# Altium footprint library HEATSINK.PcbLib: 3 footprints
Each footprint in its own frame and in the unit in brackets; x right, y up, seen from the top. Pads: shape width x height; smd on the part's side, far side on the other; paste and mask are expansions set on the pad; w line width, h text height; cw(c..) or ccw(c..) is an arc to the next point about the centre after c.
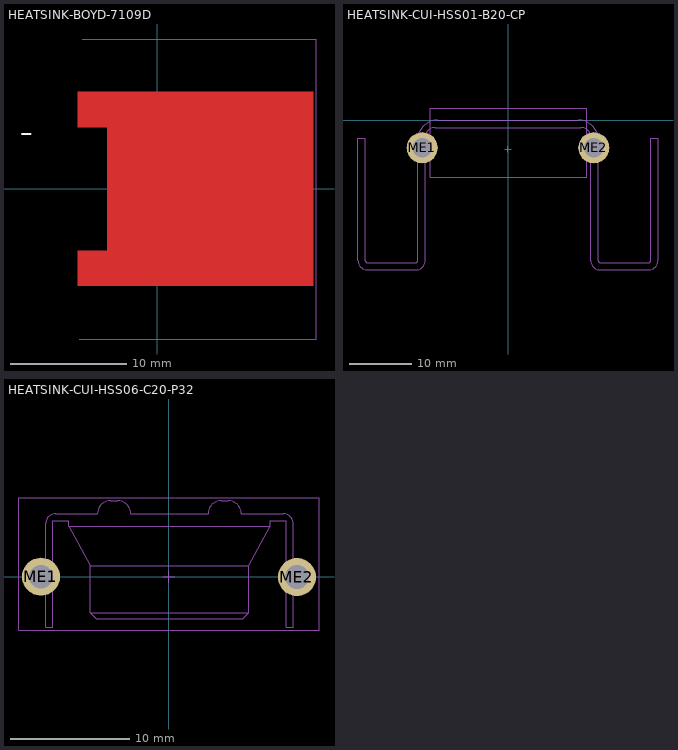
[diagram p0: the footprints below, top view; thin cyan lines are the x and y axes]

## HEATSINK-BOYD-7109D [mm] "BOYD 7109 / ASSMAN V1102"
Top Layer:
  region: -6.858,-8.388 -6.858,-5.34 -4.318,-5.34 -4.318,5.328 -6.858,5.328 -6.858,8.388 13.462,8.388 13.462,-8.388
Top Overlay:
  lines w0.152: -11.7,4.734 -10.95,4.734
Top Paste:
  region: -0.1,-3.991 -0.9,-3.991 -0.9,-4.791 -0.1,-4.791
  region: 1,-3.991 0.2,-3.991 0.2,-4.791 1,-4.791
  region: 2.1,-3.991 1.3,-3.991 1.3,-4.791 2.1,-4.791
  region: 3.2,-3.991 2.4,-3.991 2.4,-4.791 3.2,-4.791
  rectangle: -2,-4.791 -1.2,-3.991
  rectangle: -3.1,-4.791 -2.3,-3.991
  rectangle: -4.2,-4.791 -3.4,-3.991
  region: 4.2,-3.991 3.5,-3.991 3.5,-4.791 4.2,-4.791
  rectangle: -5.2,-4.791 -4.5,-3.991
  region: -0.1,-2.891 -0.9,-2.891 -0.9,-3.691 -0.1,-3.691
  region: 1,-2.891 0.2,-2.891 0.2,-3.691 1,-3.691
  region: 2.1,-2.891 1.3,-2.891 1.3,-3.691 2.1,-3.691
  region: 3.2,-2.891 2.4,-2.891 2.4,-3.691 3.2,-3.691
  rectangle: -2,-3.691 -1.2,-2.891
  rectangle: -3.1,-3.691 -2.3,-2.891
  rectangle: -4.2,-3.691 -3.4,-2.891
  region: 4.2,-2.891 3.5,-2.891 3.5,-3.691 4.2,-3.691
  rectangle: -5.2,-3.691 -4.5,-2.891
  region: -0.1,-1.791 -0.9,-1.791 -0.9,-2.591 -0.1,-2.591
  region: 1,-1.791 0.2,-1.791 0.2,-2.591 1,-2.591
  region: 2.1,-1.791 1.3,-1.791 1.3,-2.591 2.1,-2.591
  region: 3.2,-1.791 2.4,-1.791 2.4,-2.591 3.2,-2.591
  rectangle: -2,-2.591 -1.2,-1.791
  rectangle: -3.1,-2.591 -2.3,-1.791
  rectangle: -4.2,-2.591 -3.4,-1.791
  region: 4.2,-1.791 3.5,-1.791 3.5,-2.591 4.2,-2.591
  rectangle: -5.2,-2.591 -4.5,-1.791
  region: -0.1,-0.691 -0.9,-0.691 -0.9,-1.491 -0.1,-1.491
  region: 1,-0.691 0.2,-0.691 0.2,-1.491 1,-1.491
  region: 2.1,-0.691 1.3,-0.691 1.3,-1.491 2.1,-1.491
  region: 3.2,-0.691 2.4,-0.691 2.4,-1.491 3.2,-1.491
  rectangle: -2,-1.491 -1.2,-0.691
  rectangle: -3.1,-1.491 -2.3,-0.691
  rectangle: -4.2,-1.491 -3.4,-0.691
  region: 4.2,-0.691 3.5,-0.691 3.5,-1.491 4.2,-1.491
  rectangle: -5.2,-1.491 -4.5,-0.691
  region: -0.1,4.809 -0.9,4.809 -0.9,4.009 -0.1,4.009
  region: 1,4.809 0.2,4.809 0.2,4.009 1,4.009
  region: 2.1,4.809 1.3,4.809 1.3,4.009 2.1,4.009
  region: 3.2,4.809 2.4,4.809 2.4,4.009 3.2,4.009
  rectangle: -2,4.009 -1.2,4.809
  rectangle: -3.1,4.009 -2.3,4.809
  rectangle: -4.2,4.009 -3.4,4.809
  region: 4.2,4.809 3.5,4.809 3.5,4.009 4.2,4.009
  rectangle: -5.2,4.009 -4.5,4.809
  region: -0.1,3.709 -0.9,3.709 -0.9,2.909 -0.1,2.909
  region: 1,3.709 0.2,3.709 0.2,2.909 1,2.909
  region: 2.1,3.709 1.3,3.709 1.3,2.909 2.1,2.909
  region: 3.2,3.709 2.4,3.709 2.4,2.909 3.2,2.909
  rectangle: -2,2.909 -1.2,3.709
  rectangle: -3.1,2.909 -2.3,3.709
  rectangle: -4.2,2.909 -3.4,3.709
  region: 4.2,3.709 3.5,3.709 3.5,2.909 4.2,2.909
  rectangle: -5.2,2.909 -4.5,3.709
  region: -0.1,2.609 -0.9,2.609 -0.9,1.809 -0.1,1.809
  region: 1,2.609 0.2,2.609 0.2,1.809 1,1.809
  region: 2.1,2.609 1.3,2.609 1.3,1.809 2.1,1.809
  region: 3.2,2.609 2.4,2.609 2.4,1.809 3.2,1.809
  rectangle: -2,1.809 -1.2,2.609
  rectangle: -3.1,1.809 -2.3,2.609
  rectangle: -4.2,1.809 -3.4,2.609
  region: 4.2,2.609 3.5,2.609 3.5,1.809 4.2,1.809
  rectangle: -5.2,1.809 -4.5,2.609
  region: -0.1,1.509 -0.9,1.509 -0.9,0.709 -0.1,0.709
  region: 1,1.509 0.2,1.509 0.2,0.709 1,0.709
  region: 2.1,1.509 1.3,1.509 1.3,0.709 2.1,0.709
  region: 3.2,1.509 2.4,1.509 2.4,0.709 3.2,0.709
  rectangle: -2,0.709 -1.2,1.509
  rectangle: -3.1,0.709 -2.3,1.509
  rectangle: -4.2,0.709 -3.4,1.509
  region: 4.2,1.509 3.5,1.509 3.5,0.709 4.2,0.709
  rectangle: -5.2,0.709 -4.5,1.509
  rectangle: -5.2,-0.391 -4.5,0.409
  region: 4.2,0.409 3.5,0.409 3.5,-0.391 4.2,-0.391
  rectangle: -4.2,-0.391 -3.4,0.409
  rectangle: -3.1,-0.391 -2.3,0.409
  rectangle: -2,-0.391 -1.2,0.409
  region: 3.2,0.409 2.4,0.409 2.4,-0.391 3.2,-0.391
  region: 2.1,0.409 1.3,0.409 1.3,-0.391 2.1,-0.391
  region: 1,0.409 0.2,0.409 0.2,-0.391 1,-0.391
  region: -0.1,0.409 -0.9,0.409 -0.9,-0.391 -0.1,-0.391
Top Solder:
  rectangle: -4.225,6.05 13.525,8.15
  rectangle: 9.9,-8.15 13.525,7.675
  rectangle: -4.225,-8.15 13.525,-6.05
Top Courtyard:
  lines w0.05: -6.75,-12.975 13.7,-12.975 13.7,12.925 -6.5,12.925 ; -0.5,0 0,0 ; 0,-0.5 0,0 ; 0,0.5 0,0 ; 0.5,0 0,0
3D body "7109DG.STEP": height 11.44, standoff 0.01, extent -6.49,-12.73 12.89,12.67

## HEATSINK-CUI-HSS01-B20-CP [mm] "HEATSINK-CUI-HSS01-B20-CP"
pads (2):
  round 5 hole 3.2 unplated: ME1(-13.8,-4.45) ME2(13.8,-4.45)
Top Courtyard:
  lines w0.05: -0.5,-4.7 0,-4.7 ; 0,-5.2 0,-4.7 ; 0,-4.2 0,-4.7 ; 0.5,-4.7 0,-4.7 ; -12.534,-9.182 -12.534,-4.732 -12.534,1.943 12.641,1.943 12.641,-9.182 -12.534,-9.182
Top Assembly:
  lines w0.05: -24.13,-22.562 ccw(c-22.584,-22.562) -22.584,-24.108 -14.813,-24.108 ccw(c-14.813,-22.63) -13.335,-22.63 -13.335,-2.8 cw(c-11.735,-2.8) -11.735,-1.2 -11.335,-1.2 0,-1.2 11.335,-1.2 11.735,-1.2 cw(c11.735,-2.8) 13.335,-2.8 13.335,-22.63 ccw(c14.813,-22.63) 14.813,-24.108 22.584,-24.108 ccw(c22.584,-22.562) 24.13,-22.562 24.13,-2.92 22.93,-2.92 22.93,-22.63 cw(c22.63,-22.63) 22.63,-22.93 14.835,-22.93 cw(c14.835,-22.63) 14.535,-22.63 14.535,-3.2 ccw(c11.335,-3.2) 11.335,0 0,0 -11.335,0 ccw(c-11.335,-3.2) -14.535,-3.2 -14.535,-22.63 cw(c-14.835,-22.63) -14.835,-22.93 -22.63,-22.93 cw(c-22.63,-22.63) -22.93,-22.63 -22.93,-2.92 -24.13,-2.92 -24.13,-22.562
  text "MATING SURFACE" at -3.841,-1.92 h1
3D body "Same_Sky_HSS01-B20-CP.step": height 49.32, standoff -3.17, extent -24.13,-24.13 24.13,0

## HEATSINK-CUI-HSS06-C20-P32 [mm] "HEATSINK-CUI-HSS06-C20-P32"
pads (2):
  round 3.2 hole 2 unplated: ME1(-10.741,0.017) ME2(10.741,-0.017)
Top Courtyard:
  lines w0.05: -0.5,0 0,0 ; 0,-0.5 0,0 ; 0,0.5 0,0 ; 0.5,0 0,0 ; -12.584,-4.482 12.591,-4.482 12.591,6.643 -12.584,6.643 -12.584,-0.032 -12.584,-4.482
Top Assembly:
  lines w0.05: -8.403,4.247 8.485,4.247 ; -8.403,4.247 -6.599,0.913 ; -8.403,4.247 -8.403,4.693 -9.759,4.693 -9.759,-4.227 -10.359,-4.227 -10.359,4.443 cw(c-9.509,4.443) -9.509,5.293 -5.999,5.293 cw(c-4.889,5.293) -4.889,6.403 -4.309,6.403 cw(c-4.309,5.293) -3.199,5.293 0.041,5.293 3.281,5.293 cw(c4.391,5.293) 4.391,6.403 4.971,6.403 cw(c4.971,5.293) 6.081,5.293 9.591,5.293 cw(c9.591,4.443) 10.441,4.443 10.441,-4.227 9.841,-4.227 9.841,4.693 8.485,4.693 8.485,4.247 ; -6.599,-3.003 6.681,-3.003 ; -6.599,-3.003 -6.099,-3.503 0.041,-3.503 6.181,-3.503 6.681,-3.003 ; -6.599,-3.003 -6.599,0.913 ; -6.599,0.913 6.681,0.913 ; 6.681,-3.003 6.681,0.913 ; 6.681,0.913 8.485,4.247
  text "MATING SURFACE" at -3.941,4.28 h1
3D body "Same_Sky_HSS06-C20-P32.step": height 29.23, standoff -3.19, extent -10.959,-4.227 11.041,6.393